# Altium integrated library Wurth_Elektronik_Passive_rev16a.IntLib: 1143 symbols (part 28 of 28)
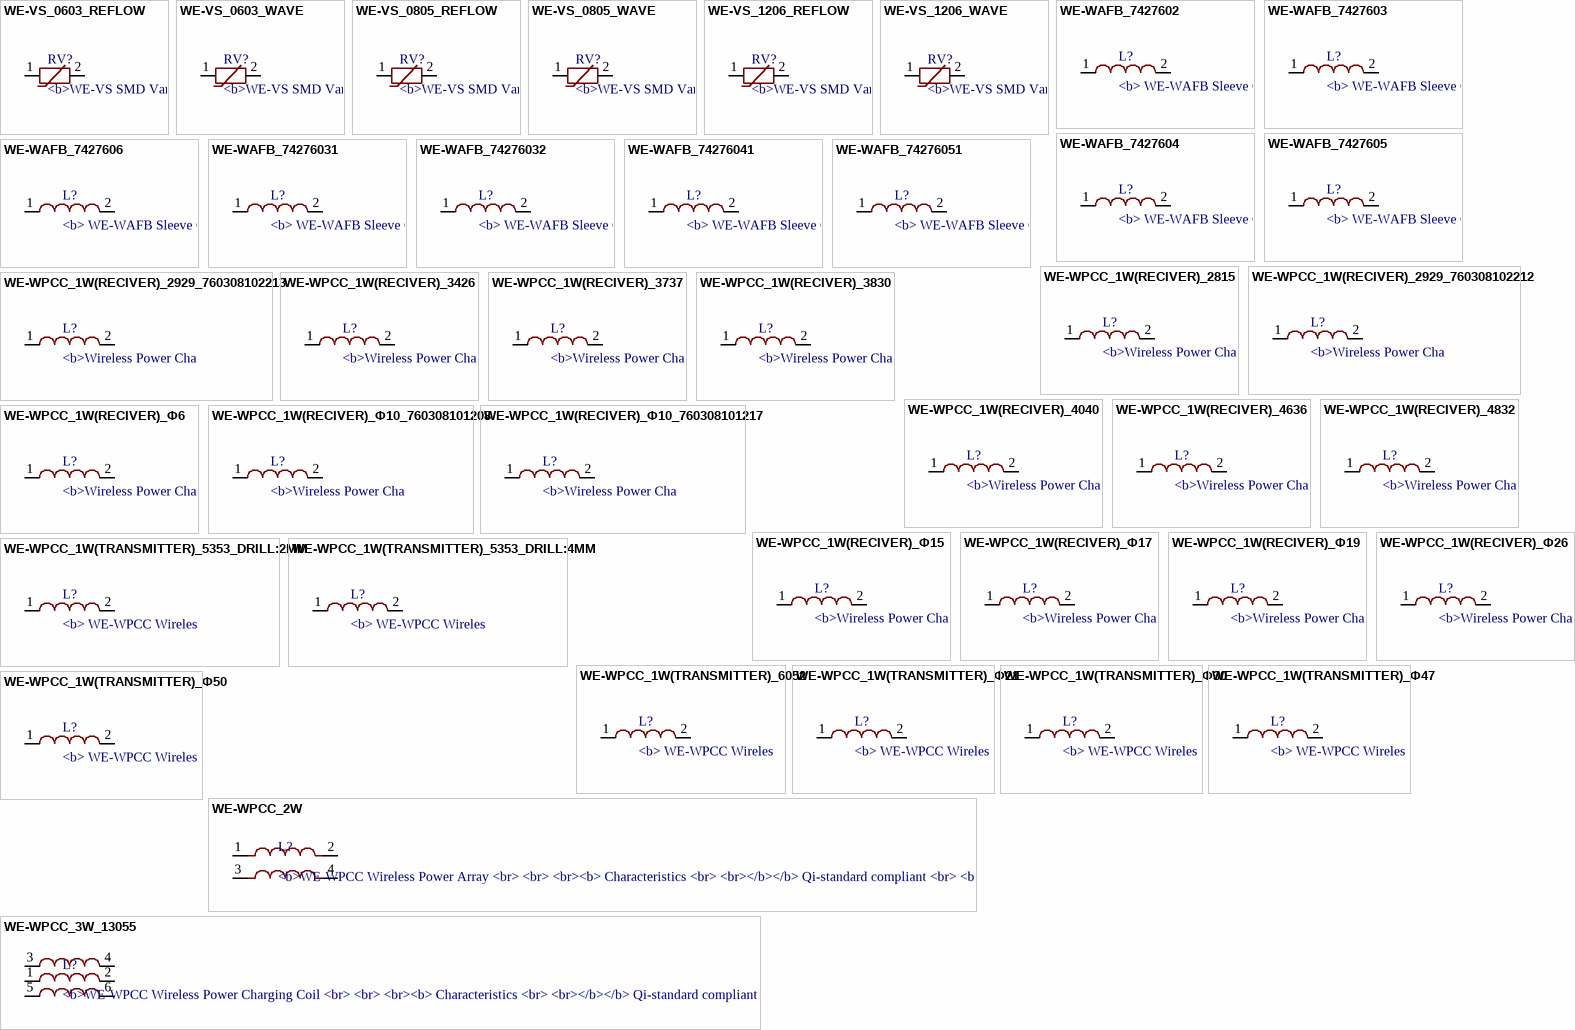
[diagram p85: symbols WE-VS_0603_REFLOW to WE-WPCC_3W_13055]

## WE-WPCC_1W(TRANSMITTER)_5353_DRILL:2MM
designator L?, comment <b> WE-WPCC Wireless Power / Charging Transmitter Coil / <br> / <br> / <br> <b> Characteristics / <br> / <br></b></b> Qi standard compliant / <br>Litzwire used - highest Q-value available on market / <br>Applicable for up to 20 W (up to 200 W outside the standards) / <br>High permeability shielding / <br>Cancels charging flux to be not coupled into sensitive components or batteries / <br>High reliable construction / <br>Pot core construction limits the stray field in the design / <br> <b> Applications / <br> / <br> / <br></b></b> Portable devices used in a clean area, where connectors pose a risk of polluting e.g. medical facilities, (industrial) clean rooms, mining industry / <br>Devices with a large number of mating cycles to avoid connector damage: e.g. Smart watches, fitness tracker... / <br>Consumer products: e.g. Digital cameras, baby phone, walkie talkie, remote control, smartphone sleeves, watertight products / <br>Explosion sensitive area where the use of a physical connection is hazardous / Smart sensors / <br> / </b><br><a href="<br><a href="http://katalog.we-online.de/media/images/v2/Family_WE-WPCC%20Transmitter.jpg" title="Enlarge picture"> / <img src="http://katalog.we-online.de/media/images/v2/Family_WE-WPCC%20Transmitter.jpg" width="320"></a><p> / Details see: <a href="http://katalog.we-online.de/en/pbs/WE-WPCC-TRANSMITTER">http://katalog.we-online.de/en/pbs/WE-WPCC-TRANSMITTER</a><p> / </b> / </b>2015 (C) Wurth Elektronik
footprint WE-WPCC_5353_DRILL:2MM
pins: 1, 2

## WE-WPCC_1W(TRANSMITTER)_5353_DRILL:4MM
designator L?, comment <b> WE-WPCC Wireless Power / Charging Transmitter Coil / <br> / <br> / <br> <b> Characteristics / <br> / <br></b></b> Qi standard compliant / <br>Litzwire used - highest Q-value available on market / <br>Applicable for up to 20 W (up to 200 W outside the standards) / <br>High permeability shielding / <br>Cancels charging flux to be not coupled into sensitive components or batteries / <br>High reliable construction / <br>Pot core construction limits the stray field in the design / <br> <b> Applications / <br> / <br> / <br></b></b> Portable devices used in a clean area, where connectors pose a risk of polluting e.g. medical facilities, (industrial) clean rooms, mining industry / <br>Devices with a large number of mating cycles to avoid connector damage: e.g. Smart watches, fitness tracker... / <br>Consumer products: e.g. Digital cameras, baby phone, walkie talkie, remote control, smartphone sleeves, watertight products / <br>Explosion sensitive area where the use of a physical connection is hazardous / Smart sensors / <br> / </b><br><a href="<br><a href="http://katalog.we-online.de/media/images/v2/Family_WE-WPCC%20Transmitter.jpg" title="Enlarge picture"> / <img src="http://katalog.we-online.de/media/images/v2/Family_WE-WPCC%20Transmitter.jpg" width="320"></a><p> / Details see: <a href="http://katalog.we-online.de/en/pbs/WE-WPCC-TRANSMITTER">http://katalog.we-online.de/en/pbs/WE-WPCC-TRANSMITTER</a><p> / </b> / </b>2015 (C) Wurth Elektronik
footprint WE-WPCC_5353_DRILL:4MM
pins: 1, 2

## WE-WPCC_1W(TRANSMITTER)_6052
designator L?, comment <b> WE-WPCC Wireless Power / Charging Transmitter Coil / <br> / <br> / <br> <b> Characteristics / <br> / <br></b></b> Qi standard compliant / <br>Litzwire used - highest Q-value available on market / <br>Applicable for up to 20 W (up to 200 W outside the standards) / <br>High permeability shielding / <br>Cancels charging flux to be not coupled into sensitive components or batteries / <br>High reliable construction / <br>Pot core construction limits the stray field in the design / <br> <b> Applications / <br> / <br> / <br></b></b> Portable devices used in a clean area, where connectors pose a risk of polluting e.g. medical facilities, (industrial) clean rooms, mining industry / <br>Devices with a large number of mating cycles to avoid connector damage: e.g. Smart watches, fitness tracker... / <br>Consumer products: e.g. Digital cameras, baby phone, walkie talkie, remote control, smartphone sleeves, watertight products / <br>Explosion sensitive area where the use of a physical connection is hazardous / Smart sensors / <br> / </b><br><a href="<br><a href="http://katalog.we-online.de/media/images/v2/Family_WE-WPCC%20Transmitter.jpg" title="Enlarge picture"> / <img src="http://katalog.we-online.de/media/images/v2/Family_WE-WPCC%20Transmitter.jpg" width="320"></a><p> / Details see: <a href="http://katalog.we-online.de/en/pbs/WE-WPCC-TRANSMITTER">http://katalog.we-online.de/en/pbs/WE-WPCC-TRANSMITTER</a><p> / </b> / </b>2015 (C) Wurth Elektronik
footprint WE-WPCC_6052
pins: 1, 2

## WE-WPCC_1W(TRANSMITTER)_Φ21
designator L?, comment <b> WE-WPCC Wireless Power / Charging Transmitter Coil / <br> / <br> / <br> <b> Characteristics / <br> / <br></b></b> Qi standard compliant / <br>Litzwire used - highest Q-value available on market / <br>Applicable for up to 20 W (up to 200 W outside the standards) / <br>High permeability shielding / <br>Cancels charging flux to be not coupled into sensitive components or batteries / <br>High reliable construction / <br>Pot core construction limits the stray field in the design / <br> <b> Applications / <br> / <br> / <br></b></b> Portable devices used in a clean area, where connectors pose a risk of polluting e.g. medical facilities, (industrial) clean rooms, mining industry / <br>Devices with a large number of mating cycles to avoid connector damage: e.g. Smart watches, fitness tracker... / <br>Consumer products: e.g. Digital cameras, baby phone, walkie talkie, remote control, smartphone sleeves, watertight products / <br>Explosion sensitive area where the use of a physical connection is hazardous / Smart sensors / <br> / </b><br><a href="<br><a href="http://katalog.we-online.de/media/images/v2/Family_WE-WPCC%20Transmitter.jpg" title="Enlarge picture"> / <img src="http://katalog.we-online.de/media/images/v2/Family_WE-WPCC%20Transmitter.jpg" width="320"></a><p> / Details see: <a href="http://katalog.we-online.de/en/pbs/WE-WPCC-TRANSMITTER">http://katalog.we-online.de/en/pbs/WE-WPCC-TRANSMITTER</a><p> / </b> / </b>2015 (C) Wurth Elektronik
footprint WE-WPCC_Φ21
pins: 1, 2

## WE-WPCC_1W(TRANSMITTER)_Φ30
designator L?, comment <b> WE-WPCC Wireless Power / Charging Transmitter Coil / <br> / <br> / <br> <b> Characteristics / <br> / <br></b></b> Qi standard compliant / <br>Litzwire used - highest Q-value available on market / <br>Applicable for up to 20 W (up to 200 W outside the standards) / <br>High permeability shielding / <br>Cancels charging flux to be not coupled into sensitive components or batteries / <br>High reliable construction / <br>Pot core construction limits the stray field in the design / <br> <b> Applications / <br> / <br> / <br></b></b> Portable devices used in a clean area, where connectors pose a risk of polluting e.g. medical facilities, (industrial) clean rooms, mining industry / <br>Devices with a large number of mating cycles to avoid connector damage: e.g. Smart watches, fitness tracker... / <br>Consumer products: e.g. Digital cameras, baby phone, walkie talkie, remote control, smartphone sleeves, watertight products / <br>Explosion sensitive area where the use of a physical connection is hazardous / Smart sensors / <br> / </b><br><a href="<br><a href="http://katalog.we-online.de/media/images/v2/Family_WE-WPCC%20Transmitter.jpg" title="Enlarge picture"> / <img src="http://katalog.we-online.de/media/images/v2/Family_WE-WPCC%20Transmitter.jpg" width="320"></a><p> / Details see: <a href="http://katalog.we-online.de/en/pbs/WE-WPCC-TRANSMITTER">http://katalog.we-online.de/en/pbs/WE-WPCC-TRANSMITTER</a><p> / </b> / </b>2015 (C) Wurth Elektronik
footprint WE-WPCC_Φ30
pins: 1, 2

## WE-WPCC_1W(TRANSMITTER)_Φ47
designator L?, comment <b> WE-WPCC Wireless Power / Charging Transmitter Coil / <br> / <br> / <br> <b> Characteristics / <br> / <br></b></b> Qi standard compliant / <br>Litzwire used - highest Q-value available on market / <br>Applicable for up to 20 W (up to 200 W outside the standards) / <br>High permeability shielding / <br>Cancels charging flux to be not coupled into sensitive components or batteries / <br>High reliable construction / <br>Pot core construction limits the stray field in the design / <br> <b> Applications / <br> / <br> / <br></b></b> Portable devices used in a clean area, where connectors pose a risk of polluting e.g. medical facilities, (industrial) clean rooms, mining industry / <br>Devices with a large number of mating cycles to avoid connector damage: e.g. Smart watches, fitness tracker... / <br>Consumer products: e.g. Digital cameras, baby phone, walkie talkie, remote control, smartphone sleeves, watertight products / <br>Explosion sensitive area where the use of a physical connection is hazardous / Smart sensors / <br> / </b><br><a href="<br><a href="http://katalog.we-online.de/media/images/v2/Family_WE-WPCC%20Transmitter.jpg" title="Enlarge picture"> / <img src="http://katalog.we-online.de/media/images/v2/Family_WE-WPCC%20Transmitter.jpg" width="320"></a><p> / Details see: <a href="http://katalog.we-online.de/en/pbs/WE-WPCC-TRANSMITTER">http://katalog.we-online.de/en/pbs/WE-WPCC-TRANSMITTER</a><p> / </b> / </b>2015 (C) Wurth Elektronik
footprint WE-WPCC_Φ47
pins: 1, 2

## WE-WPCC_1W(TRANSMITTER)_Φ50
designator L?, comment <b> WE-WPCC Wireless Power / Charging Transmitter Coil / <br> / <br> / <br> <b> Characteristics / <br> / <br></b></b> Qi standard compliant / <br>Litzwire used - highest Q-value available on market / <br>Applicable for up to 20 W (up to 200 W outside the standards) / <br>High permeability shielding / <br>Cancels charging flux to be not coupled into sensitive components or batteries / <br>High reliable construction / <br>Pot core construction limits the stray field in the design / <br> <b> Applications / <br> / <br> / <br></b></b> Portable devices used in a clean area, where connectors pose a risk of polluting e.g. medical facilities, (industrial) clean rooms, mining industry / <br>Devices with a large number of mating cycles to avoid connector damage: e.g. Smart watches, fitness tracker... / <br>Consumer products: e.g. Digital cameras, baby phone, walkie talkie, remote control, smartphone sleeves, watertight products / <br>Explosion sensitive area where the use of a physical connection is hazardous / Smart sensors / <br> / </b><br><a href="<br><a href="http://katalog.we-online.de/media/images/v2/Family_WE-WPCC%20Transmitter.jpg" title="Enlarge picture"> / <img src="http://katalog.we-online.de/media/images/v2/Family_WE-WPCC%20Transmitter.jpg" width="320"></a><p> / Details see: <a href="http://katalog.we-online.de/en/pbs/WE-WPCC-TRANSMITTER">http://katalog.we-online.de/en/pbs/WE-WPCC-TRANSMITTER</a><p> / </b> / </b>2015 (C) Wurth Elektronik
footprint WE-WPCC_Φ50
pins: 1, 2

## WE-WPCC_2W
designator L?, comment <b>WE-WPCC Wireless Power Array / <br> / <br> / <br><b> Characteristics / <br> / <br></b></b> Qi-standard compliant / <br> / <br> / <br> Litzwire used – highest Q-value available on market / <br> / <br> Applicable for up to 20 W (up to 200 W outside the standards) / <br> / <br> High permeability shielding / <br> / <br> Cancels charging flux to be not coupled into sensitive components or batteries / <br> / <br> High reliable construction / <br> / <br>Pot core construction limits the stray field in the design / <br> / <br><b> Applications / <br> / <br></b> Portable devices used in a clean area, where connectors pose a risk of polluting e.g. medical facilities, (industrial) clean rooms, mining industry / <br> / <br> Devices with a large number of mating cycles to avoid connector damage: eg. Smart watches, fitness tracker … / <br> / <br> Consumer products: eg. Digital cameras, baby phone, walkie talky, remote control, smartphone sleeves, watertight products / <br> / <br> Explosion sensitive area where the use of a physical connection is hazardous / <br> / <br> Smart sensors / <br> / <br> / <br><a href="http://katalog.we-online.de/media/images/v2/Family_WE-WPCC%20Transmitter.jpg" title="Enlarge picture"> / <img src="http://katalog.we-online.de/media/images/v2/Family_WE-WPCC%20Transmitter.jpg" width="320"></a><p> / Details see: <a href="http://katalog.we-online.de/en/pbs/WE-WPCC-ARRAY/760308104119">http://katalog.we-online.de/en/pbs/WE-WPCC-ARRAY/760308104119</a><p> / 2015 (C) Wurth Elektronik
footprint WE-WPCC_A19
pins: 1, 2, 3, 4

## WE-WPCC_3W_13055
designator L?, comment <b>WE-WPCC Wireless Power Charging Coil / <br> / <br> / <br><b> Characteristics / <br> / <br></b></b> Qi-standard compliant / <br> / <br> Evaluated and approved by every major semiconductor manufacturer / <br> / <br> Litzwire used – highest Q-value available on market / <br> / <br> Applicable for up to 20 W / <br> / <br> High permeability shielding / <br> / <br> Cancels charging flux to be not coupled into sensitive components or batteries / <br> / <br> High reliable construction / <br> / <br> / <br><b> Applications / <br> / <br></b> Portable devices used in a clean area, where connectors pose a risk of polluting e.g. medical facilities, (industrial) clean rooms, mining industry / <br> / <br> Devices with a large number of mating cycles to avoid connector damage: eg. Smart watches, fitness tracker … / <br> / <br> Consumer products: eg. Digital cameras, baby phone, walkie talky, remote control, smartphone sleeves, watertight products / <br> / <br> Explosion sensitive area where the use of a physical connection is hazardous / <br> / <br> Smart sensors / <br> / <br> / <br><a href="http://katalog.we-online.de/media/images/eisos/UtWPCC_pf2.jpg" title="Enlarge picture"> / <img src="http://katalog.we-online.de/media/thumbs2/eisos/thb_UtWPCC_pf2.jpg" width="320"></a><p> / Details see: <a href="http://katalog.we-online.de/en/pbs/WE-WPCC_Transmitter">http://katalog.we-online.de/en/pbs/WE-WPCC_Transmitter</a><p> / Created by  Dan Xu 2014-05-21<br> / 2014 (C) Wurth Elektronik
footprint WE-WPCC_13055
pins: 1 6, 2 3, 3 1, 4 2, 5, 6 4

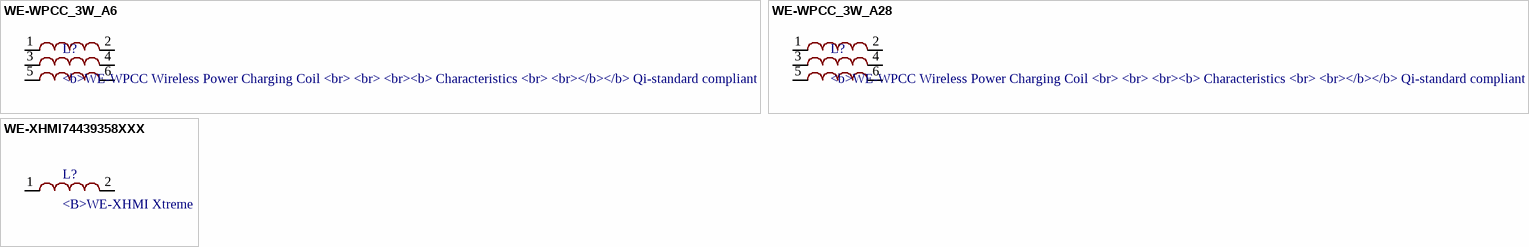
[diagram p58: symbols WE-WPCC_3W_A6 to WE-XHMI74439358XXX]

## WE-WPCC_3W_A6
designator L?, comment <b>WE-WPCC Wireless Power Charging Coil / <br> / <br> / <br><b> Characteristics / <br> / <br></b></b> Qi-standard compliant / <br> / <br> Evaluated and approved by every major semiconductor manufacturer / <br> / <br> Litzwire used – highest Q-value available on market / <br> / <br> Applicable for up to 20 W / <br> / <br> High permeability shielding / <br> / <br> Cancels charging flux to be not coupled into sensitive components or batteries / <br> / <br> High reliable construction / <br> / <br> / <br><b> Applications / <br> / <br></b> Portable devices used in a clean area, where connectors pose a risk of polluting e.g. medical facilities, (industrial) clean rooms, mining industry / <br> / <br> Devices with a large number of mating cycles to avoid connector damage: eg. Smart watches, fitness tracker … / <br> / <br> Consumer products: eg. Digital cameras, baby phone, walkie talky, remote control, smartphone sleeves, watertight products / <br> / <br> Explosion sensitive area where the use of a physical connection is hazardous / <br> / <br> Smart sensors / <br> / <br> / <br><a href="http://katalog.we-online.de/media/images/eisos/UtWPCC_pf2.jpg" title="Enlarge picture"> / <img src="http://katalog.we-online.de/media/thumbs2/eisos/thb_UtWPCC_pf2.jpg" width="320"></a><p> / Details see: <a href="http://katalog.we-online.de/en/pbs/WE-WPCC_Transmitter">http://katalog.we-online.de/en/pbs/WE-WPCC_Transmitter</a><p> / Created by  Dan Xu 2014-05-21<br> / 2014 (C) Wurth Elektronik
footprint WE-WPCC_A6
pins: 1, 2, 3 6, 4 3, 5, 6 4

## WE-WPCC_3W_A28
designator L?, comment <b>WE-WPCC Wireless Power Charging Coil / <br> / <br> / <br><b> Characteristics / <br> / <br></b></b> Qi-standard compliant / <br> / <br> Evaluated and approved by every major semiconductor manufacturer / <br> / <br> Litzwire used – highest Q-value available on market / <br> / <br> Applicable for up to 20 W / <br> / <br> High permeability shielding / <br> / <br> Cancels charging flux to be not coupled into sensitive components or batteries / <br> / <br> High reliable construction / <br> / <br> / <br><b> Applications / <br> / <br></b> Portable devices used in a clean area, where connectors pose a risk of polluting e.g. medical facilities, (industrial) clean rooms, mining industry / <br> / <br> Devices with a large number of mating cycles to avoid connector damage: eg. Smart watches, fitness tracker … / <br> / <br> Consumer products: eg. Digital cameras, baby phone, walkie talky, remote control, smartphone sleeves, watertight products / <br> / <br> Explosion sensitive area where the use of a physical connection is hazardous / <br> / <br> Smart sensors / <br> / <br> / <br><a href="http://katalog.we-online.de/media/images/eisos/UtWPCC_pf2.jpg" title="Enlarge picture"> / <img src="http://katalog.we-online.de/media/thumbs2/eisos/thb_UtWPCC_pf2.jpg" width="320"></a><p> / Details see: <a href="http://katalog.we-online.de/en/pbs/WE-WPCC_Transmitter">http://katalog.we-online.de/en/pbs/WE-WPCC_Transmitter</a><p> / Created by  Dan Xu 2014-05-21<br> / 2014 (C) Wurth Elektronik
footprint WE-WPCC_A28
pins: 1, 2, 3 6, 4 3, 5, 6 4

## WE-XHMI74439358XXX
designator L?, comment <B>WE-XHMI Xtreme High Current Molded Inductor<br></b> / <br> / <b>Characteristicscs<br></b> / Flat wire coil for low copper losses<br> / Composite core material allows high saturation currents<br> / Compact design<br> / Magnetically shielded<br> / High current capability and handles high transient current spikes<br> / Low leakage flux noise<br> / Operating temperature: -40°C up to +125°C<br> / <br> / <b>Applications</b><br> / DC/DC-converter for high current power supplies<br> / DC/DC-converter for Field Programmable Gate Array (FPGA)<br> / Power supplies for mobile devices<br> / POL-converters<br> / Mainboards/ graphic cards<br> / Battery powered devices<br> / Wireless communication devices<br> / Filter<br> / <br><a href="http://katalog.we-online.de/media/images/eisos/IndXHMI_pf2.jpg" title="Enlarge picture"> / <img src="http://katalog.we-online.de/media/images/eisos/IndXHMI_pf2.jpg" width="320"></a><p> / Details see: <a href="http://katalog.we-online.de/en/pbs/WE-XHMI">http://katalog.we-online.de/en/pbs/WE-XHMI</a><p> / Created 2015-08-05<br> / 2015 (C) Würth Elektronik
footprint WE-XHMI_8080
pins: 1, 2